# EAGLE library part ADXL320 (library TEABOX-LIB)
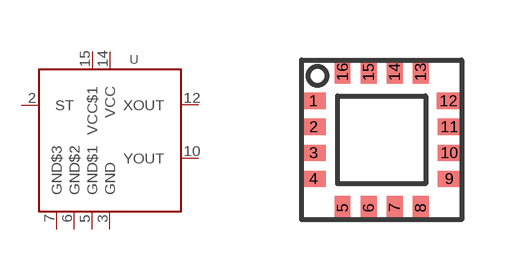
[diagram p27: symbol with the pads of LFCSP; footprint LFCSP]

Designator prefix U

## ADXL320  [LFCSP]
2  ST
3  GND
5  GND$1
6  GND$2
7  GND$3
10  YOUT
12  XOUT
14  VCC
15  VCC$1

## Footprint LFCSP (pad centres in mm)
smd 0.6 x 0.4: 1 0.3,2.975; 2 0.3,2.325; 3 0.3,1.675; 4 0.3,1.025; 9 3.7,1.025; 10 3.7,1.675; 11 3.7,2.325; 12 3.675,2.975
smd 0.4 x 0.6: 5 1.025,0.3; 6 1.675,0.29; 7 2.325,0.3; 8 2.975,0.3; 13 2.975,3.7; 14 2.325,3.7; 15 1.675,3.7; 16 1.025,3.7